# Altium footprint library IC-DFN.PcbLib: 6 footprints
Each footprint in its own frame and in the unit in brackets; x right, y up, seen from the top. Pads: shape width x height; smd on the part's side, far side on the other; paste and mask are expansions set on the pad; w line width, h text height; cw(c..) or ccw(c..) is an arc to the next point about the centre after c.
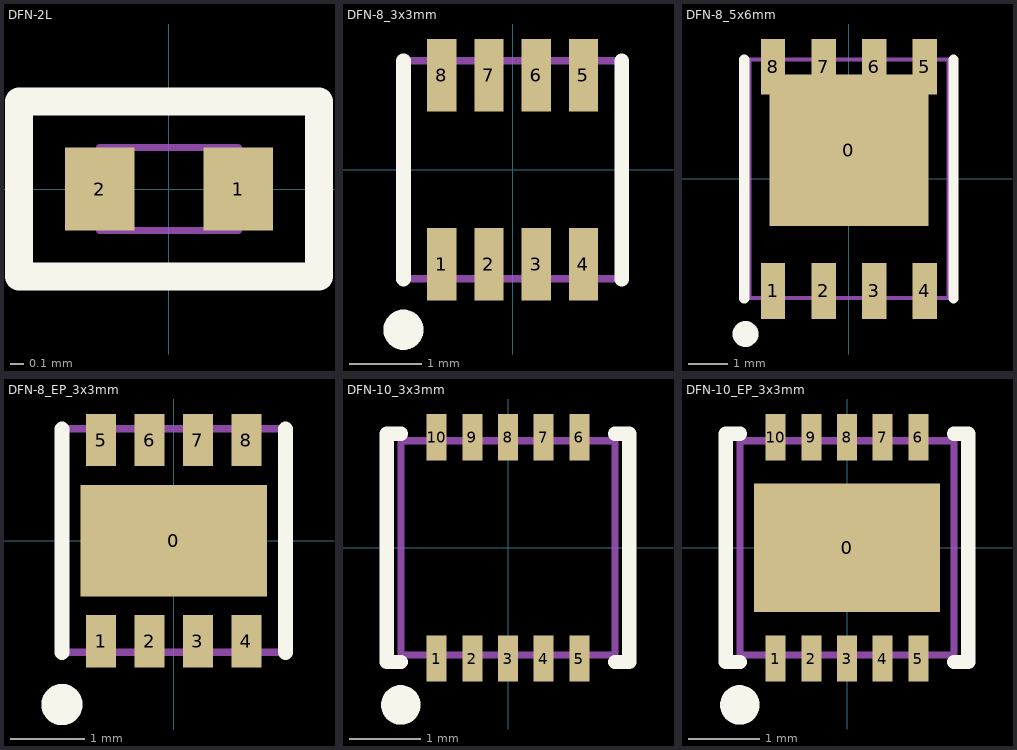
[diagram p0: the footprints below, top view; thin cyan lines are the x and y axes]

## DFN-2L [mm]
pads (2):
  rect 0.5x0.6 smd: 1(0.5,0) 2(-0.5,0)
Top Overlay:
  lines w0.203: -1.08,-0.63 1.08,-0.63 1.08,0.63 -1.08,0.63 -1.08,-0.63
Mechanical 13:
  lines w0.051: -0.5,-0.3 -0.5,0.3 0.5,0.3 0.5,-0.3 -0.5,-0.3

## DFN-8_3x3mm [mm]
pads (8):
  rect 0.4x1 smd mask+0.051: 1(-0.975,-1.3) 2(-0.325,-1.3) 3(0.325,-1.3) 4(0.975,-1.3) 5(0.975,1.3) 6(0.325,1.3) 7(-0.325,1.3) 8(-0.975,1.3)
Top Overlay:
  circle w0.3: c-1.5,-2.2 r0.127
  lines w0.203: -1.5,-1.5 -1.5,1.5 ; 1.5,-1.5 1.5,1.5
Mechanical 13:
  lines w0.1: -1.5,-1.5 -1.5,1.5 1.5,1.5 1.5,-1.5 -1.5,-1.5

## DFN-8_5x6mm [mm]
pads (9):
  rect 4x3.81 smd: 0(0,0.716)
  rect 0.61x1.4 smd: 1(-1.905,-2.816) 2(-0.635,-2.816) 3(0.635,-2.816) 4(1.905,-2.816) 5(1.905,2.816) 6(0.635,2.816) 7(-0.635,2.816) 8(-1.905,2.816)
Top Overlay:
  circle w0.4: c-2.6,-3.9 r0.125
  lines w0.254: -2.63,-3 -2.63,3 ; 2.63,-3 2.63,3
Mechanical 13:
  lines w0.1: -2.5,-3 2.5,-3 2.5,3 -2.5,3 -2.5,-3

## DFN-8_EP_3x3mm [mm]
pads (9):
  rect 2.5x1.5 smd mask+0.051: 0(0,0)
  rect 0.4x0.7 smd mask+0.051: 1(-0.975,-1.35) 2(-0.325,-1.35) 3(0.325,-1.35) 4(0.975,-1.35) 5(-0.975,1.35) 6(-0.325,1.35) 7(0.325,1.35) 8(0.975,1.35)
Top Overlay:
  circle w0.3: c-1.5,-2.2 r0.127
  lines w0.203: -1.5,-1.5 -1.5,1.5 ; 1.5,-1.5 1.5,1.5
Mechanical 13:
  lines w0.1: -1.5,-1.5 1.5,-1.5 1.5,1.5 -1.5,1.5 -1.5,-1.5

## DFN-10_3x3mm [mm]
pads (10):
  rect 0.28x0.65 smd mask+0.051: 1(-1,-1.55) 2(-0.5,-1.55) 3(0,-1.55) 4(0.5,-1.55) 5(1,-1.55) 6(1,1.55) 7(0.5,1.55) 8(0,1.55) 9(-0.5,1.55) 10(-1,1.55)
Top Overlay:
  circle w0.3: c-1.5,-2.2 r0.127
  lines w0.2: -1.5,-1.6 -1.7,-1.6 -1.7,1.6 -1.5,1.6 ; 1.5,-1.6 1.7,-1.6 1.7,1.6 1.5,1.6
Mechanical 13:
  lines w0.1: -1.5,-1.5 1.5,-1.5 1.5,1.5 -1.5,1.5 -1.5,-1.5

## DFN-10_EP_3x3mm [mm]
pads (11):
  rect 2.6x1.8 smd mask+0.051: 0(0,0)
  rect 0.28x0.65 smd mask+0.051: 1(-1,-1.55) 2(-0.5,-1.55) 3(0,-1.55) 4(0.5,-1.55) 5(1,-1.55) 6(1,1.55) 7(0.5,1.55) 8(0,1.55) 9(-0.5,1.55) 10(-1,1.55)
Top Overlay:
  circle w0.3: c-1.5,-2.2 r0.127
  lines w0.2: -1.5,-1.6 -1.7,-1.6 -1.7,1.6 -1.5,1.6 ; 1.5,-1.6 1.7,-1.6 1.7,1.6 1.5,1.6
Mechanical 13:
  lines w0.1: -1.5,-1.5 -1.5,1.5 1.5,1.5 1.5,-1.5 -1.5,-1.5